# Altium integrated library 800AWSP9M2QE.IntLib: 1 symbol
Pins are listed as number, name and electrical type; pins without a type are passive.

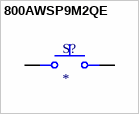
[diagram p0: symbol 800AWSP9M2QE]

## 800AWSP9M2QE
designator S?
Pushbutton Switch SPST-NO Standard Through Hole; MF: E-Switch; MP: 800AWSP9M2QE; Availability: In Stock; SnapEDA_Link: https://www.snapeda.com/parts/800AWSP9M2QE/E-Switch/view-part/?ref=snap; Check_prices: https://www.snapeda.com/parts/800AWSP9M2QE/E-Switch/view-part/?ref=eda; Price: None; Package: None; Purchase-URL: https://pricing.snapeda.com/search/part/800AWSP9M2QE/?ref=eda; Value: *
footprint SW_800AWSP9M2QE
pins: 1, 3